# Altium footprint library con-neutrik_ag.PCBLIB: 78 footprints (part 1 of 5)
Each footprint in its own frame and in the unit in brackets; x right, y up, seen from the top. Pads: shape width x height; smd on the part's side, far side on the other; paste and mask are expansions set on the pad; w line width, h text height; cw(c..) or ccw(c..) is an arc to the next point about the centre after c.
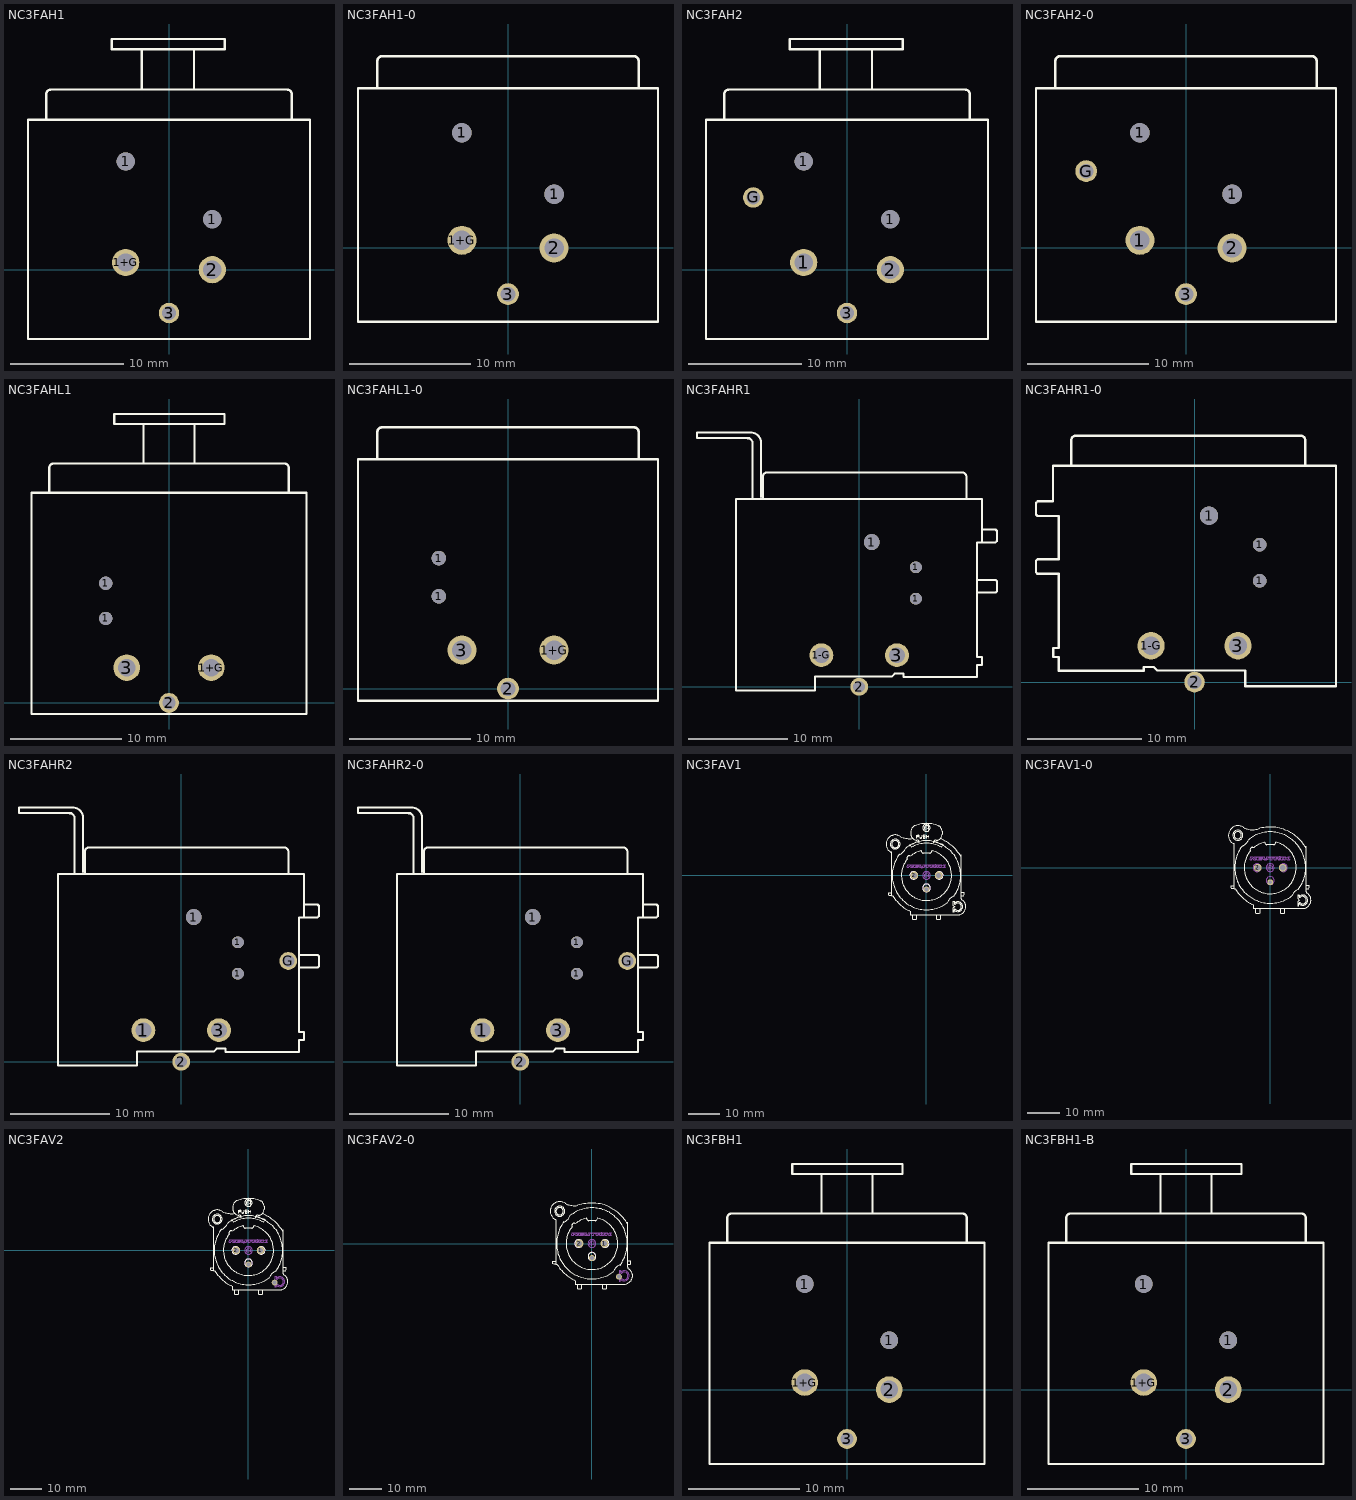
[diagram p0: the footprints below, top view; thin cyan lines are the x and y axes]

## NC3FAH1 [mil]
pads (5):
  round 62.99 hole 62.99: 1(-150,375) 1(150,175)
  round 94.48 hole 62.99: 1+G(-150,25) 2(150,0)
  round 70.86 hole 47.24: 3(0,-150.2)
Top Overlay:
  lines w8: -425.2,523.62 -425.2,608.27 cw(c-409.45,608.27) -409.45,624.02 409.45,624.02 cw(c409.45,608.27) 425.2,608.27 425.2,523.62 ; -94.49,627.95 -94.49,763.78 ; 84.65,763.78 -94.49,763.78 ; 86.61,627.95 86.61,763.78 192.91,763.78 192.91,799.21 -198.82,799.21 -198.82,763.78 -94.49,763.78 ; -488.19,-240.16 -488.19,519.69 488.19,519.69 488.19,-240.16 -488.19,-240.16

## NC3FAH1-0 [mil]
pads (5):
  round 62.99 hole 62.99: 1(-150,375) 1(150,175)
  round 94.48 hole 62.99: 1+G(-150,25) 2(150,0)
  round 70.86 hole 47.24: 3(0,-150.2)
Top Overlay:
  lines w8: -425.2,523.62 -425.2,608.27 cw(c-409.45,608.27) -409.45,624.02 409.45,624.02 cw(c409.45,608.27) 425.2,608.27 425.2,523.62 ; -488.19,-240.16 -488.19,519.69 488.19,519.69 488.19,-240.16 -488.19,-240.16

## NC3FAH2 [mil]
pads (6):
  round 94.48 hole 62.99: 1(-150,25) 2(150,0)
  round 62.99 hole 62.99: 1(-150,375) 1(150,175)
  round 70.86 hole 47.24: 3(0,-150.2) G(-324.8,250.2)
Top Overlay:
  lines w8: -425.2,523.62 -425.2,608.27 cw(c-409.45,608.27) -409.45,624.02 409.45,624.02 cw(c409.45,608.27) 425.2,608.27 425.2,523.62 ; -94.49,627.95 -94.49,763.78 ; 84.65,763.78 -94.49,763.78 ; 86.61,627.95 86.61,763.78 192.91,763.78 192.91,799.21 -198.82,799.21 -198.82,763.78 -94.49,763.78 ; -488.19,-240.16 -488.19,519.69 488.19,519.69 488.19,-240.16 -488.19,-240.16

## NC3FAH2-0 [mil]
pads (6):
  round 94.48 hole 62.99: 1(-150,25) 2(150,0)
  round 62.99 hole 62.99: 1(-150,375) 1(150,175)
  round 70.86 hole 47.24: 3(0,-150.2) G(-324.8,250.2)
Top Overlay:
  lines w8: -425.2,523.62 -425.2,608.27 cw(c-409.45,608.27) -409.45,624.02 409.45,624.02 cw(c409.45,608.27) 425.2,608.27 425.2,523.62 ; -488.19,-240.16 -488.19,519.69 488.19,519.69 488.19,-240.16 -488.19,-240.16

## NC3FAHL1 [mil]
pads (5):
  round 47.24 hole 47.24: 1(-224.8,300) 1(-224.8,424.8)
  round 94.48 hole 62.99: 1+G(150,125.2) 3(-150,125.2)
  round 70.86 hole 47.24: 2(0,0)
Top Overlay:
  lines w8: -425.2,749.94 -425.2,834.59 cw(c-409.45,834.59) -409.45,850.33 409.45,850.33 cw(c409.45,834.59) 425.2,834.59 425.2,749.94 ; -90.55,854.72 -90.55,990.55 ; 88.58,990.55 -90.55,990.55 ; 90.55,854.72 90.55,990.55 196.85,990.55 196.85,1025.98 -194.88,1025.98 -194.88,990.55 -90.55,990.55 ; -488.19,-39.43 -488.19,746 488.19,746 488.19,-39.43 -488.19,-39.43

## NC3FAHL1-0 [mil]
pads (5):
  round 47.24 hole 47.24: 1(-224.8,300) 1(-224.8,424.8)
  round 94.48 hole 62.99: 1+G(150,125.2) 3(-150,125.2)
  round 70.86 hole 47.24: 2(0,0)
Top Overlay:
  lines w8: -425.2,749.94 -425.2,834.59 cw(c-409.45,834.59) -409.45,850.33 409.45,850.33 cw(c409.45,834.59) 425.2,834.59 425.2,749.94 ; -488.19,-39.43 -488.19,746 488.19,746 488.19,-39.43 -488.19,-39.43

## NC3FAHR1 [mil]
pads (6):
  round 62.99 hole 62.99: 1(50,574.17)
  round 47.24 hole 47.24: 1(224.8,349.37) 1(224.8,474.17)
  round 94.48 hole 62.99: 1-G(-150,125.2) 3(150,125.2)
  round 70.86 hole 47.24: 2(0,0)
Top Overlay:
  lines w8: -442.91,986.22 cw(c-442.91,966.54) -423.23,966.54 -423.23,751.97 ; -435.04,988.19 -643.7,988.19 -643.7,1009.84 -431.1,1009.84 cw(c-431.1,968.5) -389.76,968.5 -389.76,753.94 ; -381.89,749.94 -381.89,834.59 cw(c-366.14,834.59) -366.14,850.33 409.45,850.33 cw(c409.45,834.59) 425.2,834.59 425.2,749.94 ; 468.24,374.85 468.24,423.42 ; 488.19,575.15 488.19,623.78 ; -488.19,-14.42 -488.19,746 488.19,746 488.19,624.17 540.94,624.17 546.98,618.13 546.98,578.56 541.32,572.91 468.06,572.91 468.06,424.19 541.32,424.19 546.98,418.54 546.98,378.75 541.54,373.32 468.06,373.32 468.06,117.41 487.63,117.41 487.63,86.32 468.06,86.32 468.06,38.92 175.42,38.92 175.44,52.28 140.79,52.18 128.44,39.83 -174.76,39.83 -174.76,-14.42 -488.19,-14.42

## NC3FAHR1-0 [mil]
pads (6):
  round 62.99 hole 62.99: 1(50,574.17)
  round 47.24 hole 47.24: 1(224.8,349.37) 1(224.8,474.17)
  round 94.48 hole 62.99: 1-G(-150,125.2) 3(150,125.2)
  round 70.86 hole 47.24: 2(0,0)
Top Overlay:
  lines w8: -425.2,749.94 -425.2,834.59 cw(c-409.45,834.59) -409.45,850.33 366.14,850.33 cw(c366.14,834.59) 381.89,834.59 381.89,749.94 ; -546.98,378.75 -541.54,373.32 -468.06,373.32 -468.06,117.41 -487.63,117.41 -487.63,86.32 -468.06,86.32 -468.06,38.92 -175.42,38.92 -175.44,52.28 -140.79,52.18 -128.44,39.83 174.76,39.83 174.76,-14.42 488.19,-14.42 488.19,746 -488.19,746 -488.19,624.17 -540.94,624.17 -546.98,618.13 -546.98,578.56 -541.32,572.91 -468.06,572.91 -468.06,424.19 -541.32,424.19 -546.98,418.54 -546.98,378.75

## NC3FAHR2 [mil]
pads (7):
  round 94.48 hole 62.99: 1(-150,125.2) 3(150,125.2)
  round 62.99 hole 62.99: 1(50,574.17)
  round 47.24 hole 47.24: 1(224.8,349.37) 1(224.8,474.17)
  round 70.86 hole 47.24: 2(0,0) G(425.2,400)
Top Overlay:
  lines w8: -442.91,986.22 cw(c-442.91,966.54) -423.23,966.54 -423.23,751.97 ; -435.04,988.19 -643.7,988.19 -643.7,1009.84 -431.1,1009.84 cw(c-431.1,968.5) -389.76,968.5 -389.76,753.94 ; -381.89,749.94 -381.89,834.59 cw(c-366.14,834.59) -366.14,850.33 409.45,850.33 cw(c409.45,834.59) 425.2,834.59 425.2,749.94 ; 468.24,374.85 468.24,423.42 ; 488.19,575.15 488.19,623.78 ; -488.19,-14.42 -488.19,746 488.19,746 488.19,624.17 540.94,624.17 546.98,618.13 546.98,578.56 541.32,572.91 468.06,572.91 468.06,424.19 541.32,424.19 546.98,418.54 546.98,378.75 541.54,373.32 468.06,373.32 468.06,117.41 487.63,117.41 487.63,86.32 468.06,86.32 468.06,38.92 175.42,38.92 175.44,52.28 140.79,52.18 128.44,39.83 -174.76,39.83 -174.76,-14.42 -488.19,-14.42

## NC3FAHR2-0 [mil]
pads (7):
  round 94.48 hole 62.99: 1(-150,125.2) 3(150,125.2)
  round 62.99 hole 62.99: 1(50,574.17)
  round 47.24 hole 47.24: 1(224.8,349.37) 1(224.8,474.17)
  round 70.86 hole 47.24: 2(0,0) G(425.2,400)
Top Overlay:
  lines w8: -442.91,986.22 cw(c-442.91,966.54) -423.23,966.54 -423.23,751.97 ; -435.04,988.19 -643.7,988.19 -643.7,1009.84 -431.1,1009.84 cw(c-431.1,968.5) -389.76,968.5 -389.76,753.94 ; -381.89,749.94 -381.89,834.59 cw(c-366.14,834.59) -366.14,850.33 409.45,850.33 cw(c409.45,834.59) 425.2,834.59 425.2,749.94 ; 468.24,374.85 468.24,423.42 ; 488.19,575.15 488.19,623.78 ; -488.19,-14.42 -488.19,746 488.19,746 488.19,624.17 540.94,624.17 546.98,618.13 546.98,578.56 541.32,572.91 468.06,572.91 468.06,424.19 541.32,424.19 546.98,418.54 546.98,378.75 541.54,373.32 468.06,373.32 468.06,117.41 487.63,117.41 487.63,86.32 468.06,86.32 468.06,38.92 175.42,38.92 175.44,52.28 140.79,52.18 128.44,39.83 -174.76,39.83 -174.76,-14.42 -488.19,-14.42

## NC3FAV1 [mil]
pads (3):
  round 94.48 hole 62.99: 1+G(150,0) 2(-150,0)
  round 70.86 hole 47.24: 3(0,-175.2)
Top Overlay:
  circle w4: c-159.06,0 r46.85
  circle w4: c159.45,0 r46.85
  circle w4: c0,-155.51 r47.24
  circle w7.87: c0,592.72 r45.09
  circle w4: c-389.37,389.37 r44.09
  circle w4: c-389.37,389.37 r61.02
  rectangle: -126.77,460.63 -121.26,503.94
  rectangle: -86.81,474.8 -81.3,504.13
  rectangle: -58.86,475.59 -53.35,504.13
  rectangle: -3.54,460.83 1.97,503.94
  rectangle: 24.41,460.83 29.92,504.13
  rectangle: 1.38,481.3 25.2,486.42
  rectangle: -18.5,491.54 -12.8,493.9
  rectangle: -45.28,473.43 -39.76,475.39
  lines w4: -434.65,-251.57 -435.04,-251.57 ; -430.71,-250 -430.71,-217.32 ; -259.84,338.19 cw(c-386.02,386.26) -338.58,259.84 ccw(c0.11,0.12) 258.27,-339.76 cw(c389.17,-390.35) 338.58,-259.45 ccw(c-0.61,0.14) 212.2,370.47 213.39,374.41 ccw(c1.09,-0.86) -212.6,373.62 -211.02,370.47 ccw(c-11.59,14.88) -259.45,338.58 ; -177.17,-491.73 -177.17,-541.73 -170.47,-548.43 -129.13,-548.43 -122.44,-541.73 -122.44,-490.94 ; -173.21,460 cw(c-210.39,707.96) -321.26,483.07 ccw(c-1012.01,-1011.9) -349.21,495.67 ccw(c-388.63,388.77) -436.61,285.43 cw(c-440.01,276.77) -430.71,276.77 -430.71,-216.54 -470.08,-216.54 -470.08,-242.91 -461.42,-251.57 -435.04,-251.57 ; -96.06,414.96 ccw(c8.32,-17.19) -204.33,373.23 -190.94,349.61 cw(c-0.36,2.01) 190.94,349.21 204.33,373.62 ccw(c-11.05,-31.18) 96.46,414.57 ; -92.52,403.54 -92.52,420.08 ccw(c-109.49,420.08) -108.27,437.01 -120.47,437.4 cw(c-118.02,513.56) -194.09,509.06 cw(c199.57,532.43) -194.49,547.64 cw(c-116.37,545.23) -141.34,619.29 cw(c2.21,241.98) 0,645.67 cw(c-0.99,244) 147.24,617.32 cw(c116.8,545.74) 194.49,549.61 194.49,511.81 cw(c119.28,512.61) 120.08,437.4 ccw(c114.17,-129.03) 108.27,437.4 ccw(c110.55,419.07) 92.13,420.47 cw(c-570.79,412) 92.13,403.54 ; -68.9,305.12 ccw(c12.97,-25.84) -200.79,239.76 ccw(c-214.58,214.44) -239.76,200.39 ccw(c0.1,0.21) 71.65,304.33 ccw(c68.57,297.62) 62.6,301.97 51.97,283.07 cw(c42.05,288.27) 40.55,277.17 -39.76,277.17 cw(c-41.77,287.58) -51.18,282.68 -61.81,300 ccw(c-68.39,298.33) -68.5,305.12 ; 122.05,-491.73 122.05,-541.34 129.13,-548.43 170.47,-548.43 177.17,-541.73 177.17,-491.34 ; 170.14,457.45 cw(c-13.99,-17.78) 430.32,231.89 ; 344.09,-435.04 344.09,-454.33 328.35,-454.33 328.35,-409.84 348.82,-389.37 328.35,-368.9 328.35,-324.41 344.09,-324.41 344.09,-343.7 ; 348.03,-425.98 348.03,-434.25 ccw(c389.17,-389.55) 348.43,-344.49 348.43,-352.36 ccw(c354.19,-352.37) 357.48,-357.09 cw(c389.34,-389.4) 358.66,-422.83 ccw(c353.91,-426.4) 348.03,-425.59 ; 421.65,251.57 430.71,251.57 430.71,-288.58 ccw(c445.96,-289.39) 438.58,-302.76 cw(c390.55,-389.88) 390.55,-489.37 -201.57,-489.37 -201.57,-446.46 cw(c11.94,15.49) -421.26,-251.57 -435.04,-251.57 ; 432.68,-251.57 461.42,-251.57 470.08,-242.91 470.08,-216.14 432.68,-216.14
  lines w5.12: -123.23,501.38 -107.48,501.38 cw(c-107.48,491.24) -107.09,481.1 -122.44,481.1
  lines w5.51: -84.06,477.56 ccw(c-68.67,477.62) -74.02,463.19 ccw(c-69.22,502.58) -66.54,462.99 ccw(c-70.17,476.62) -56.1,477.56 ; -42.52,472.83 -42.32,471.85 ccw(c-32.47,473.82) -37.2,464.96 ccw(c-27.33,483.47) -30.91,462.8 ccw(c-27.95,479.82) -25,462.8 ccw(c-31.57,501.03) -21.46,463.58 ccw(c-23.74,471.92) -16.54,467.13 ccw(c-26.8,474) -15.16,469.88 ccw(c-23.66,472.88) -15.35,476.38 ccw(c-22.78,473.24) -20.28,480.91 ccw(c-49.88,390.31) -26.38,482.68 cw(c22.35,674.13) -32.87,484.45 cw(c-27.54,502.82) -38.58,487.2 cw(c-35.6,491.41) -40.75,491.14 cw(c-13.85,492.52) -40.75,493.9 cw(c-32.9,493.49) -39.17,498.23 cw(c-32.82,493.44) -34.65,501.18 cw(c-27.72,471.82) -28.74,501.97 cw(c-27.98,479.68) -22.83,501.38 cw(c-24.59,494) -18.9,499.02 cw(c-37.29,482.78) -16.54,495.87 cw(c-31.76,486.24) -15.75,494.49
  lines w7.87: -23.62,576.38 cw(c0.21,592.84) -25,607.09 -12.4,599.61 ; -16.54,616.73 cw(c-0.07,590.86) 14.37,617.91 ; 0,564.57 0,619.29 ; 12.6,585.63 24.61,578.35 ccw(c-0.22,592.92) 23.62,609.06
Mechanical 16:
  circle w4: c-159.45,0 r47.24
  circle w4: c159.45,0 r46.85
  circle w4: c0,-155.12 r47.24
  circle w7.09: c0,0 r47.48
  lines w1: -56.98,97.32 ccw(c-56.96,210.74) -43.26,98.15 ccw(c-50.64,159.12) -33.35,100.2 ccw(c-41.23,126.92) -25.08,104.22 ccw(c-27.16,107.15) -23.65,106.39 -18.46,129.76 -40.04,129.76 -44.5,109.6 cw(c-46.69,110.11) -45.11,108.51 cw(c-51.25,114.66) -47.93,106.63 cw(c-54.31,122) -51.49,105.6 cw(c-56.32,133.83) -56.33,105.19 cw(c-56.34,133.83) -61.17,105.6 cw(c-58.36,122.05) -64.74,106.63 cw(c-61.42,114.66) -67.56,108.51 cw(c-65.97,110.1) -68.22,110.1 cw(c-65.95,110.1) -68.15,110.62 -63.91,129.76 -85.48,129.76 -90.33,107.92 ccw(c-86.77,107.16) -90.41,107.15 ccw(c-86.82,107.16) -88.89,104.22 ccw(c-72.75,126.91) -80.62,100.2 ccw(c-63.33,159.12) -70.71,98.16 ccw(c-57.01,210.84) -56.98,97.33 ; 93.86,106.95 ccw(c92.73,106.65) 93.49,107.54 ccw(c91.99,105.75) 92.62,108 ccw(c91.63,104.61) 91.67,108.14 72.9,108.14 70.72,98.31 49.09,98.31 56.07,129.76 111.26,129.76 cw(c111.17,112.06) 116,129.09 cw(c112.86,117.98) 120.31,126.8 cw(c116.59,122.39) 122.16,123.89 cw(c116.58,122.39) 122.02,120.44 cw(c111.15,124.36) 119.43,116.3 cw(c106.74,128.66) 115.28,113.14 cw(c102.52,136.05) 113.85,112.4 cw(c109.78,106.43) 114.43,111.96 cw(c112.09,109.21) 115.58,110.13 cw(c112.12,109.18) 115.7,108.93 115.19,101.6 ccw(c120.09,101.24) 116.15,98.31 94.26,98.31 ; 93.9,106.57 93.5,100.82 ccw(c98.23,100.88) 94.26,98.31 ; 94.26,98.31 94.26,98.31 ; -241.87,98.31 -234.89,129.76 -209.34,129.76 -189.78,116 -186.73,129.76 -165.1,129.76 -172.08,98.31 -196.65,98.31 -216.32,116 -220.24,98.31 -241.87,98.31 ; -161.26,98.31 -154.29,129.76 -95.31,129.76 -96.97,122.29 -134.32,122.29 -135.32,117.77 -100.92,117.77 -102.57,110.3 -136.98,110.3 -137.98,105.78 -100.63,105.78 -102.29,98.31 -161.26,98.31 ; -14.48,121.9 5.17,121.9 -0.06,98.31 21.57,98.31 26.8,121.9 47.44,121.9 49.19,129.76 -12.74,129.76 -14.48,121.9 ; 74.56,115.61 91.36,115.61 ccw(c91.36,124.41) 93.64,115.91 ccw(c91.39,124.45) 95.62,116.71 ccw(c92.76,121.91) 97.01,117.77 ccw(c94.23,120.48) 97.88,119.16 ccw(c96.05,119.82) 97.93,120.32 ccw(c96.05,119.82) 97.31,121.3 ccw(c94.81,118.34) 95.86,122.07 ccw(c94.26,116.35) 94.27,122.29 76.04,122.29 74.56,115.61 ; 125.77,98.31 132.74,129.76 154.37,129.76 147.39,98.31 125.77,98.31 ; 160.17,98.31 167.14,129.76 187.79,129.76 185.43,119.12 210.39,129.76 237.92,129.76 212.54,118.95 232.91,98.31 203.42,98.31 191.78,110.1 182.56,106.17 180.81,98.31 160.17,98.31
  lines w5.91: -24.02,-18.5 cw(c2.08,-0.19) -26.38,14.17 -12.6,6.69 ; -18.11,24.02 cw(c0.04,-2.18) 14.96,25.98 ; 0,-29.92 0,29.13 ; 12.2,-6.69 25.59,-14.17 ccw(c0,0.74) 24.8,16.93

## NC3FAV1-0 [mil]
pads (3):
  round 94.48 hole 62.99: 1+G(150,0) 2(-150,0)
  round 70.86 hole 47.24: 3(0,-175.2)
Top Overlay:
  circle w4: c-389.37,389.37 r44.09
  circle w4: c-389.37,389.37 r61.02
  lines w4: -434.65,-251.57 -435.04,-251.57 ; -430.71,-250 -430.71,-217.32 ; -259.84,338.19 cw(c-386.03,386.26) -338.58,259.84 ccw(c0.11,0.12) 258.27,-339.76 cw(c389.17,-390.35) 338.58,-259.45 ccw(c-0.61,0.14) 212.2,370.47 213.39,374.41 ccw(c1.09,-0.3) -212.6,373.62 -211.02,370.47 ccw(c-11.59,14.88) -259.45,338.58 ; -177.17,-491.73 -177.17,-541.73 -170.47,-548.43 -129.13,-548.43 -122.44,-541.73 -122.44,-490.94 ; -68.9,305.12 ccw(c12.97,-25.84) -200.79,239.76 ccw(c-214.58,214.44) -239.76,200.39 ccw(c0.11,0.21) 71.65,304.33 ccw(c68.57,297.62) 62.6,301.97 51.97,283.07 cw(c42.05,288.28) 40.55,277.17 -39.76,277.17 cw(c-41.77,287.58) -51.18,282.68 -61.81,300 ccw(c-68.4,298.33) -68.5,305.12 ; 122.05,-491.73 122.05,-541.34 129.13,-548.43 170.47,-548.43 177.17,-541.73 177.17,-491.34 ; 344.09,-435.04 344.09,-454.33 328.35,-454.33 328.35,-409.84 348.82,-389.37 328.35,-368.9 328.35,-324.41 344.09,-324.41 344.09,-343.7 ; 348.03,-425.98 348.03,-434.25 ccw(c389.17,-389.55) 348.43,-344.49 348.43,-352.36 ccw(c354.19,-352.36) 357.48,-357.09 cw(c389.34,-389.4) 358.66,-422.83 ccw(c353.91,-426.4) 348.03,-425.59 ; 421.65,251.57 430.71,251.57 430.71,-288.58 ccw(c445.96,-289.39) 438.58,-302.76 cw(c390.55,-389.88) 390.55,-489.37 -201.57,-489.37 -201.57,-446.46 cw(c11.95,15.5) -421.26,-251.57 -435.04,-251.57 ; 430.32,231.89 ccw(c-1.39,-3.33) -126.77,472.05 cw(c-211.34,701.2) -321.26,483.07 ccw(c-1012.02,-1011.9) -349.21,495.67 ccw(c-388.63,388.77) -436.61,285.43 cw(c-440.01,276.77) -430.71,276.77 -430.71,-216.54 -470.08,-216.54 -470.08,-242.91 -461.42,-251.57 -435.04,-251.57 ; 432.68,-251.57 461.42,-251.57 470.08,-242.91 470.08,-216.14 432.68,-216.14
Mechanical 16:
  circle w4: c-159.45,0 r47.24
  circle w4: c159.45,0 r46.85
  circle w4: c0,-155.12 r47.24
  circle w7.09: c0,0 r47.48
  lines w1: -56.98,97.32 ccw(c-56.96,210.74) -43.26,98.15 ccw(c-50.64,159.12) -33.35,100.2 ccw(c-41.23,126.92) -25.08,104.22 ccw(c-27.16,107.15) -23.65,106.39 -18.46,129.76 -40.04,129.76 -44.5,109.6 cw(c-46.69,110.11) -45.11,108.51 cw(c-51.25,114.66) -47.93,106.63 cw(c-54.31,122) -51.49,105.6 cw(c-56.32,133.83) -56.33,105.19 cw(c-56.34,133.83) -61.17,105.6 cw(c-58.36,122.05) -64.74,106.63 cw(c-61.42,114.66) -67.56,108.51 cw(c-65.97,110.1) -68.22,110.1 cw(c-65.95,110.1) -68.15,110.62 -63.91,129.76 -85.48,129.76 -90.33,107.92 ccw(c-86.77,107.16) -90.41,107.15 ccw(c-86.82,107.16) -88.89,104.22 ccw(c-72.75,126.91) -80.62,100.2 ccw(c-63.33,159.12) -70.71,98.16 ccw(c-57.01,210.84) -56.98,97.33 ; 93.86,106.95 ccw(c92.73,106.65) 93.49,107.54 ccw(c91.99,105.75) 92.62,108 ccw(c91.63,104.61) 91.67,108.14 72.9,108.14 70.72,98.31 49.09,98.31 56.07,129.76 111.26,129.76 cw(c111.17,112.06) 116,129.09 cw(c112.86,117.98) 120.31,126.8 cw(c116.59,122.39) 122.16,123.89 cw(c116.58,122.39) 122.02,120.44 cw(c111.15,124.36) 119.43,116.3 cw(c106.74,128.66) 115.28,113.14 cw(c102.52,136.05) 113.85,112.4 cw(c109.78,106.43) 114.43,111.96 cw(c112.09,109.21) 115.58,110.13 cw(c112.12,109.18) 115.7,108.93 115.19,101.6 ccw(c120.09,101.24) 116.15,98.31 94.26,98.31 ; 93.9,106.57 93.5,100.82 ccw(c98.23,100.88) 94.26,98.31 ; 94.26,98.31 94.26,98.31 ; -241.87,98.31 -234.89,129.76 -209.34,129.76 -189.78,116 -186.73,129.76 -165.1,129.76 -172.08,98.31 -196.65,98.31 -216.32,116 -220.24,98.31 -241.87,98.31 ; -161.26,98.31 -154.29,129.76 -95.31,129.76 -96.97,122.29 -134.32,122.29 -135.32,117.77 -100.92,117.77 -102.57,110.3 -136.98,110.3 -137.98,105.78 -100.63,105.78 -102.29,98.31 -161.26,98.31 ; -14.48,121.9 5.17,121.9 -0.06,98.31 21.57,98.31 26.8,121.9 47.44,121.9 49.19,129.76 -12.74,129.76 -14.48,121.9 ; 74.56,115.61 91.36,115.61 ccw(c91.36,124.41) 93.64,115.91 ccw(c91.39,124.45) 95.62,116.71 ccw(c92.76,121.91) 97.01,117.77 ccw(c94.23,120.48) 97.88,119.16 ccw(c96.05,119.82) 97.93,120.32 ccw(c96.05,119.82) 97.31,121.3 ccw(c94.81,118.34) 95.86,122.07 ccw(c94.26,116.35) 94.27,122.29 76.04,122.29 74.56,115.61 ; 125.77,98.31 132.74,129.76 154.37,129.76 147.39,98.31 125.77,98.31 ; 160.17,98.31 167.14,129.76 187.79,129.76 185.43,119.12 210.39,129.76 237.92,129.76 212.54,118.95 232.91,98.31 203.42,98.31 191.78,110.1 182.56,106.17 180.81,98.31 160.17,98.31
  lines w5.91: -24.02,-18.5 cw(c2.08,-0.19) -26.38,14.17 -12.6,6.69 ; -18.11,24.02 cw(c0.04,-2.2) 14.96,25.98 ; 0,-29.92 0,29.13 ; 12.2,-6.69 25.59,-14.17 ccw(c0,0.74) 24.8,16.93

## NC3FAV2 [mil]
pads (4):
  round 94.48 hole 62.99: 1(150,0) 2(-150,0)
  round 70.86 hole 47.24: 3(0,-175.2) G(324.8,-400)
Top Overlay:
  circle w4: c-159.06,0 r46.85
  circle w4: c159.45,0 r46.85
  circle w4: c0,-155.51 r47.24
  circle w7.87: c0,592.72 r45.09
  circle w4: c-389.37,389.37 r44.09
  circle w4: c-389.37,389.37 r61.02
  rectangle: -126.77,460.63 -121.26,503.94
  rectangle: -86.81,474.8 -81.3,504.13
  rectangle: -58.86,475.59 -53.35,504.13
  rectangle: -3.54,460.83 1.97,503.94
  rectangle: 24.41,460.83 29.92,504.13
  rectangle: 1.38,481.3 25.2,486.42
  rectangle: -18.5,491.54 -12.8,493.9
  rectangle: -45.28,473.43 -39.76,475.39
  lines w4: -434.65,-251.57 -435.04,-251.57 ; -430.71,-250 -430.71,-217.32 ; -259.84,338.19 cw(c-386.02,386.25) -338.58,259.84 ccw(c0.11,0.12) 258.27,-339.76 cw(c389.17,-390.35) 338.58,-259.45 ccw(c-0.61,0.14) 212.2,370.47 213.39,374.41 ccw(c1.09,-0.86) -212.6,373.62 -211.02,370.47 ccw(c-11.59,14.88) -259.45,338.58 ; -177.17,-491.73 -177.17,-541.73 -170.47,-548.43 -129.13,-548.43 -122.44,-541.73 -122.44,-490.94 ; -173.21,460 cw(c-210.4,707.94) -321.26,483.07 ccw(c-1012.01,-1011.89) -349.21,495.67 ccw(c-388.63,388.77) -436.61,285.43 cw(c-440.01,276.77) -430.71,276.77 -430.71,-216.54 -470.08,-216.54 -470.08,-242.91 -461.42,-251.57 -435.04,-251.57 ; -96.06,414.96 ccw(c8.32,-17.19) -204.33,373.23 -190.94,349.61 cw(c-0.36,1.9) 190.94,349.21 204.33,373.62 ccw(c-11.05,-31.18) 96.46,414.57 ; -92.52,403.54 -92.52,420.08 ccw(c-109.49,420.08) -108.27,437.01 -120.47,437.4 cw(c-118.03,513.56) -194.09,509.06 cw(c199.57,532.43) -194.49,547.64 cw(c-116.37,545.23) -141.34,619.29 cw(c2.21,241.98) 0,645.67 cw(c-0.99,244.01) 147.24,617.32 cw(c116.8,545.74) 194.49,549.61 194.49,511.81 cw(c119.28,512.61) 120.08,437.4 ccw(c114.17,-129.03) 108.27,437.4 ccw(c110.55,419.07) 92.13,420.47 cw(c-570.79,412) 92.13,403.54 ; -68.9,305.12 ccw(c12.97,-25.84) -200.79,239.76 ccw(c-214.58,214.44) -239.76,200.39 ccw(c0.1,0.21) 71.65,304.33 ccw(c68.57,297.62) 62.6,301.97 51.97,283.07 cw(c42.05,288.27) 40.55,277.17 -39.76,277.17 cw(c-41.77,287.58) -51.18,282.68 -61.81,300 ccw(c-68.39,298.34) -68.5,305.12 ; 122.05,-491.73 122.05,-541.34 129.13,-548.43 170.47,-548.43 177.17,-541.73 177.17,-491.34 ; 170.14,457.45 cw(c-13.99,-17.78) 430.32,231.89 ; 421.65,251.57 430.71,251.57 430.71,-288.58 ccw(c445.96,-289.39) 438.58,-302.76 cw(c390.55,-389.88) 390.55,-489.37 -201.57,-489.37 -201.57,-446.46 cw(c11.94,15.49) -421.26,-251.57 -435.04,-251.57 ; 432.68,-251.57 461.42,-251.57 470.08,-242.91 470.08,-216.14 432.68,-216.14
  lines w5.12: -123.23,501.38 -107.48,501.38 cw(c-107.48,491.24) -107.09,481.1 -122.44,481.1
  lines w5.51: -84.06,477.56 ccw(c-68.67,477.62) -74.02,463.19 ccw(c-69.22,502.58) -66.54,462.99 ccw(c-70.17,476.62) -56.1,477.56 ; -42.52,472.83 -42.32,471.85 ccw(c-32.47,473.82) -37.2,464.96 ccw(c-27.33,483.47) -30.91,462.8 ccw(c-27.95,479.82) -25,462.8 ccw(c-31.57,501.03) -21.46,463.58 ccw(c-23.74,471.92) -16.54,467.13 ccw(c-26.8,474) -15.16,469.88 ccw(c-23.66,472.88) -15.35,476.38 ccw(c-22.78,473.24) -20.28,480.91 ccw(c-49.88,390.31) -26.38,482.68 cw(c22.35,674.12) -32.87,484.45 cw(c-27.54,502.81) -38.58,487.2 cw(c-35.6,491.41) -40.75,491.14 cw(c-13.85,492.52) -40.75,493.9 cw(c-32.9,493.49) -39.17,498.23 cw(c-32.82,493.44) -34.65,501.18 cw(c-27.72,471.82) -28.74,501.97 cw(c-27.98,479.69) -22.83,501.38 cw(c-24.59,494) -18.9,499.02 cw(c-37.29,482.78) -16.54,495.87 cw(c-31.76,486.24) -15.75,494.49
  lines w7.87: -23.62,576.38 cw(c0.21,592.84) -25,607.09 -12.4,599.61 ; -16.54,616.73 cw(c-0.07,590.84) 14.37,617.91 ; 0,564.57 0,619.29 ; 12.6,585.63 24.61,578.35 ccw(c-0.22,592.92) 23.62,609.06
Mechanical 16:
  circle w4: c-159.45,0 r47.24
  circle w4: c159.45,0 r46.85
  circle w4: c0,-155.12 r47.24
  circle w7.09: c0,0 r47.48
  lines w1: -56.98,97.32 ccw(c-56.96,210.74) -43.26,98.15 ccw(c-50.64,159.12) -33.35,100.2 ccw(c-41.23,126.92) -25.08,104.22 ccw(c-27.16,107.15) -23.65,106.39 -18.46,129.76 -40.04,129.76 -44.5,109.6 cw(c-46.69,110.11) -45.11,108.51 cw(c-51.25,114.66) -47.93,106.63 cw(c-54.31,122) -51.49,105.6 cw(c-56.32,133.83) -56.33,105.19 cw(c-56.34,133.83) -61.17,105.6 cw(c-58.36,122.05) -64.74,106.63 cw(c-61.42,114.66) -67.56,108.51 cw(c-65.97,110.1) -68.22,110.1 cw(c-65.95,110.1) -68.15,110.62 -63.91,129.76 -85.48,129.76 -90.33,107.92 ccw(c-86.77,107.16) -90.41,107.15 ccw(c-86.82,107.16) -88.89,104.22 ccw(c-72.75,126.91) -80.62,100.2 ccw(c-63.33,159.12) -70.71,98.16 ccw(c-57.01,210.84) -56.98,97.33 ; 93.86,106.95 ccw(c92.73,106.65) 93.49,107.54 ccw(c91.99,105.75) 92.62,108 ccw(c91.63,104.61) 91.67,108.14 72.9,108.14 70.72,98.31 49.09,98.31 56.07,129.76 111.26,129.76 cw(c111.17,112.06) 116,129.09 cw(c112.86,117.98) 120.31,126.8 cw(c116.59,122.39) 122.16,123.89 cw(c116.58,122.39) 122.02,120.44 cw(c111.15,124.36) 119.43,116.3 cw(c106.74,128.66) 115.28,113.14 cw(c102.52,136.05) 113.85,112.4 cw(c109.78,106.43) 114.43,111.96 cw(c112.09,109.21) 115.58,110.13 cw(c112.12,109.18) 115.7,108.93 115.19,101.6 ccw(c120.09,101.24) 116.15,98.31 94.26,98.31 ; 93.9,106.57 93.5,100.82 ccw(c98.22,100.88) 94.26,98.31 ; 94.26,98.31 94.26,98.31 ; -241.87,98.31 -234.89,129.76 -209.34,129.76 -189.78,116 -186.73,129.76 -165.1,129.76 -172.08,98.31 -196.65,98.31 -216.32,116 -220.24,98.31 -241.87,98.31 ; -161.26,98.31 -154.29,129.76 -95.31,129.76 -96.97,122.29 -134.32,122.29 -135.32,117.77 -100.92,117.77 -102.57,110.3 -136.98,110.3 -137.98,105.78 -100.63,105.78 -102.29,98.31 -161.26,98.31 ; -14.48,121.9 5.17,121.9 -0.06,98.31 21.57,98.31 26.8,121.9 47.44,121.9 49.19,129.76 -12.74,129.76 -14.48,121.9 ; 74.56,115.61 91.36,115.61 ccw(c91.36,124.41) 93.64,115.91 ccw(c91.39,124.45) 95.62,116.71 ccw(c92.76,121.91) 97.01,117.77 ccw(c94.23,120.48) 97.88,119.16 ccw(c96.05,119.82) 97.93,120.32 ccw(c96.05,119.82) 97.31,121.3 ccw(c94.81,118.34) 95.86,122.07 ccw(c94.26,116.35) 94.27,122.29 76.04,122.29 74.56,115.61 ; 125.77,98.31 132.74,129.76 154.37,129.76 147.39,98.31 125.77,98.31 ; 160.17,98.31 167.14,129.76 187.79,129.76 185.43,119.12 210.39,129.76 237.92,129.76 212.54,118.95 232.91,98.31 203.42,98.31 191.78,110.1 182.56,106.17 180.81,98.31 160.17,98.31
  lines w4: 344.09,-435.04 344.09,-454.33 328.35,-454.33 328.35,-409.84 348.82,-389.37 328.35,-368.9 328.35,-324.41 344.09,-324.41 344.09,-343.7 ; 348.03,-425.98 348.03,-434.25 ccw(c389.17,-389.55) 348.43,-344.49 348.43,-352.36 ccw(c354.18,-352.37) 357.48,-357.09 cw(c389.34,-389.4) 358.66,-422.83 ccw(c353.91,-426.4) 348.03,-425.59
  lines w5.91: -24.02,-18.5 cw(c2.08,-0.19) -26.38,14.17 -12.6,6.69 ; -18.11,24.02 cw(c0.04,-2.18) 14.96,25.98 ; 0,-29.92 0,29.13 ; 12.2,-6.69 25.59,-14.17 ccw(c0,0.74) 24.8,16.93

## NC3FAV2-0 [mil]
pads (4):
  round 94.48 hole 62.99: 1(150,0) 2(-150,0)
  round 70.86 hole 47.24: 3(0,-175.2) G(324.8,-400)
Top Overlay:
  circle w4: c-159.06,0 r46.85
  circle w4: c159.45,0 r46.85
  circle w4: c0,-155.51 r47.24
  circle w4: c-389.37,389.37 r44.09
  circle w4: c-389.37,389.37 r61.02
  lines w4: -434.65,-251.57 -435.04,-251.57 ; -430.71,-250 -430.71,-217.32 ; -259.84,338.19 cw(c-386.02,386.25) -338.58,259.84 ccw(c0.11,0.12) 258.27,-339.76 cw(c389.17,-390.35) 338.58,-259.45 ccw(c-0.61,0.14) 212.2,370.47 213.39,374.41 ccw(c1.09,-0.86) -212.6,373.62 -211.02,370.47 ccw(c-11.59,14.88) -259.45,338.58 ; -177.17,-491.73 -177.17,-541.73 -170.47,-548.43 -129.13,-548.43 -122.44,-541.73 -122.44,-490.94 ; -173.21,460 cw(c-210.4,707.94) -321.26,483.07 ccw(c-1012.01,-1011.89) -349.21,495.67 ccw(c-388.63,388.77) -436.61,285.43 cw(c-440.01,276.77) -430.71,276.77 -430.71,-216.54 -470.08,-216.54 -470.08,-242.91 -461.42,-251.57 -435.04,-251.57 ; -173.13,460.02 cw(c-5.34,-54.39) 170.05,457.48 ; -68.9,305.12 ccw(c12.97,-25.84) -200.79,239.76 ccw(c-214.58,214.44) -239.76,200.39 ccw(c0.1,0.21) 71.65,304.33 ccw(c68.57,297.62) 62.6,301.97 51.97,283.07 cw(c42.05,288.27) 40.55,277.17 -39.76,277.17 cw(c-41.77,287.58) -51.18,282.68 -61.81,300 ccw(c-68.39,298.34) -68.5,305.12 ; 122.05,-491.73 122.05,-541.34 129.13,-548.43 170.47,-548.43 177.17,-541.73 177.17,-491.34 ; 170.14,457.45 cw(c-13.99,-17.78) 430.32,231.89 ; 421.65,251.57 430.71,251.57 430.71,-288.58 ccw(c445.96,-289.39) 438.58,-302.76 cw(c390.55,-389.88) 390.55,-489.37 -201.57,-489.37 -201.57,-446.46 cw(c11.94,15.49) -421.26,-251.57 -435.04,-251.57 ; 432.68,-251.57 461.42,-251.57 470.08,-242.91 470.08,-216.14 432.68,-216.14
Mechanical 16:
  circle w4: c-159.45,0 r47.24
  circle w4: c159.45,0 r46.85
  circle w4: c0,-155.12 r47.24
  circle w7.09: c0,0 r47.48
  lines w1: -56.98,97.32 ccw(c-56.96,210.74) -43.26,98.15 ccw(c-50.64,159.12) -33.35,100.2 ccw(c-41.23,126.92) -25.08,104.22 ccw(c-27.16,107.15) -23.65,106.39 -18.46,129.76 -40.04,129.76 -44.5,109.6 cw(c-46.69,110.11) -45.11,108.51 cw(c-51.25,114.66) -47.93,106.63 cw(c-54.31,122) -51.49,105.6 cw(c-56.32,133.83) -56.33,105.19 cw(c-56.34,133.83) -61.17,105.6 cw(c-58.36,122.05) -64.74,106.63 cw(c-61.42,114.66) -67.56,108.51 cw(c-65.97,110.1) -68.22,110.1 cw(c-65.95,110.1) -68.15,110.62 -63.91,129.76 -85.48,129.76 -90.33,107.92 ccw(c-86.77,107.16) -90.41,107.15 ccw(c-86.82,107.16) -88.89,104.22 ccw(c-72.75,126.91) -80.62,100.2 ccw(c-63.33,159.12) -70.71,98.16 ccw(c-57.01,210.84) -56.98,97.33 ; 93.86,106.95 ccw(c92.73,106.65) 93.49,107.54 ccw(c91.99,105.75) 92.62,108 ccw(c91.63,104.61) 91.67,108.14 72.9,108.14 70.72,98.31 49.09,98.31 56.07,129.76 111.26,129.76 cw(c111.17,112.06) 116,129.09 cw(c112.86,117.98) 120.31,126.8 cw(c116.59,122.39) 122.16,123.89 cw(c116.58,122.39) 122.02,120.44 cw(c111.15,124.36) 119.43,116.3 cw(c106.74,128.66) 115.28,113.14 cw(c102.52,136.05) 113.85,112.4 cw(c109.78,106.43) 114.43,111.96 cw(c112.09,109.21) 115.58,110.13 cw(c112.12,109.18) 115.7,108.93 115.19,101.6 ccw(c120.09,101.24) 116.15,98.31 94.26,98.31 ; 93.9,106.57 93.5,100.82 ccw(c98.22,100.88) 94.26,98.31 ; 94.26,98.31 94.26,98.31 ; -241.87,98.31 -234.89,129.76 -209.34,129.76 -189.78,116 -186.73,129.76 -165.1,129.76 -172.08,98.31 -196.65,98.31 -216.32,116 -220.24,98.31 -241.87,98.31 ; -161.26,98.31 -154.29,129.76 -95.31,129.76 -96.97,122.29 -134.32,122.29 -135.32,117.77 -100.92,117.77 -102.57,110.3 -136.98,110.3 -137.98,105.78 -100.63,105.78 -102.29,98.31 -161.26,98.31 ; -14.48,121.9 5.17,121.9 -0.06,98.31 21.57,98.31 26.8,121.9 47.44,121.9 49.19,129.76 -12.74,129.76 -14.48,121.9 ; 74.56,115.61 91.36,115.61 ccw(c91.36,124.41) 93.64,115.91 ccw(c91.39,124.45) 95.62,116.71 ccw(c92.76,121.91) 97.01,117.77 ccw(c94.23,120.48) 97.88,119.16 ccw(c96.05,119.82) 97.93,120.32 ccw(c96.05,119.82) 97.31,121.3 ccw(c94.81,118.34) 95.86,122.07 ccw(c94.26,116.35) 94.27,122.29 76.04,122.29 74.56,115.61 ; 125.77,98.31 132.74,129.76 154.37,129.76 147.39,98.31 125.77,98.31 ; 160.17,98.31 167.14,129.76 187.79,129.76 185.43,119.12 210.39,129.76 237.92,129.76 212.54,118.95 232.91,98.31 203.42,98.31 191.78,110.1 182.56,106.17 180.81,98.31 160.17,98.31
  lines w4: 344.09,-435.04 344.09,-454.33 328.35,-454.33 328.35,-409.84 348.82,-389.37 328.35,-368.9 328.35,-324.41 344.09,-324.41 344.09,-343.7 ; 348.03,-425.98 348.03,-434.25 ccw(c389.17,-389.55) 348.43,-344.49 348.43,-352.36 ccw(c354.18,-352.37) 357.48,-357.09 cw(c389.34,-389.4) 358.66,-422.83 ccw(c353.91,-426.4) 348.03,-425.59
  lines w5.91: -24.02,-18.5 cw(c2.08,-0.19) -26.38,14.17 -12.6,6.69 ; -18.11,24.02 cw(c0.04,-2.18) 14.96,25.98 ; 0,-29.92 0,29.13 ; 12.2,-6.69 25.59,-14.17 ccw(c0,0.74) 24.8,16.93

## NC3FBH1 [mil]
pads (5):
  round 62.99 hole 62.99: 1(-150,375) 1(150,175)
  round 94.48 hole 62.99: 1+G(-150,25) 2(150,0)
  round 70.86 hole 47.24: 3(0,-175.2)
Top Overlay:
  lines w8: -425.2,525.14 -425.2,609.78 cw(c-409.45,609.78) -409.45,625.53 409.45,625.53 cw(c409.45,609.78) 425.2,609.78 425.2,525.14 ; -90.55,629.92 -90.55,765.75 ; 88.58,765.75 -90.55,765.75 ; 90.55,629.92 90.55,765.75 196.85,765.75 196.85,801.18 -194.88,801.18 -194.88,765.75 -90.55,765.75 ; -488.19,-264.23 -488.19,521.2 488.19,521.2 488.19,-264.23 -488.19,-264.23

## NC3FBH1-B [mil]
pads (5):
  round 62.99 hole 62.99: 1(-150,375) 1(150,175)
  round 94.48 hole 62.99: 1+G(-150,25) 2(150,0)
  round 70.86 hole 47.24: 3(0,-175.2)
Top Overlay:
  lines w8: -425.2,525.14 -425.2,609.78 cw(c-409.45,609.78) -409.45,625.53 409.45,625.53 cw(c409.45,609.78) 425.2,609.78 425.2,525.14 ; -90.55,629.92 -90.55,765.75 ; 88.58,765.75 -90.55,765.75 ; 90.55,629.92 90.55,765.75 196.85,765.75 196.85,801.18 -194.88,801.18 -194.88,765.75 -90.55,765.75 ; -488.19,-264.23 -488.19,521.2 488.19,521.2 488.19,-264.23 -488.19,-264.23